# Altium schematic symbol library sinking-clock.SchLib: 22 symbols
Pins are listed as number, name and electrical type; pins without a type are passive.

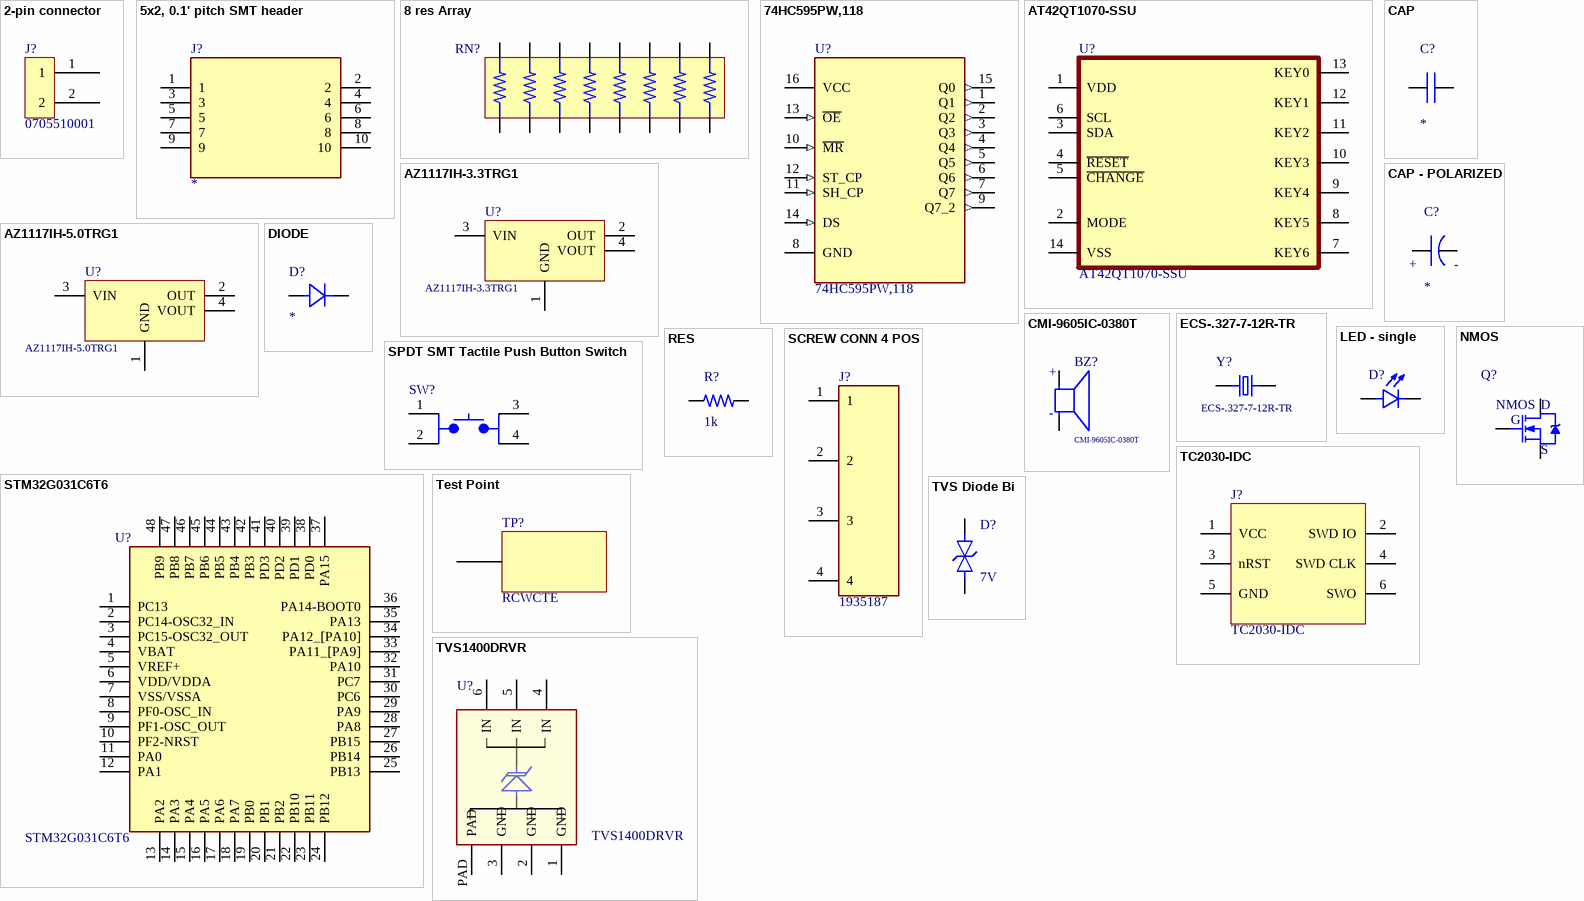
[diagram p0: symbols 2-pin connector to TVS Diode Bi]

## 2-pin connector
designator J?, comment 0705510001
CONN HEADER R/A 2POS 2.54MM; MFR: MOLEX; MFR PN: 0705510001; Vendor: *; Vendor PN: *; Vendor Link: *; Type: TH
footprint CONN_MOLEX_705510001
pins: 1, 2

## 5x2, 0.1' pitch SMT header
designator J?
CONN HEADER SMD 10POS 2.54MM; MFR: CNC Tech; MFR PN: 3020-10-0300-00; Vendor: *; Vendor PN: *; Vendor Link: *; Type: SMD
footprint 5x2, 0.1' pitch SMT header (CONN HEADER SMD 10POS 2.54MM)
pins: 1, 2, 3, 4, 5, 6, 7, 8, 9, 10

## 8 res Array
designator RN?
Vendor: *; Vendor PN: *; ComponentLink1Description: New link; ComponentLink1URL: *; ComponentLink2Description: New link 1; ComponentLink2URL: *; Vendor Link: *; Value: *
footprint MNR18ERAPJ822 (Chip Array, Concave, 16-Leads, Pitch 0.50mm,  Body 4.00x1.60mm,  IPC Medium Density)
footprint EXB2HV331JV (330 Res Array)
pins: 1, 2, 3, 4, 5, 6, 7, 8, 9, 10, 11, 12, 13, 14, 15, 16

## 74HC595PW,118
designator U?
Shift Shift Register 1 Element 8 Bit 16-TSSOP; MFR: Nexperia USA Inc.; MFR PN: 74HC595PW,118; Vendor: *; Vendor PN: *; Vendor Link: *
footprint 16-TSSOP
pins: 1 Q1 (out), 2 Q2 (out), 3 Q3 (out), 4 Q4 (out), 5 Q5 (out), 6 Q6 (out), 7 Q7 (out), 8 GND, 9 Q7_2 (out), 10 ~{MR} (in), 11 SH_CP (in), 12 ST_CP (in), 13 ~{OE} (in), 14 DS (in), 15 Q0 (out), 16 VCC (power)

## AT42QT1070-SSU
designator U?
Capacitive Touch Buttons 14-SOIC; MFR: Microchip; Value: *; MFR PN: AT42QT1070-SSU; Type: SMD
footprint 14-SOIC
pins: 1 VDD, 2 MODE, 3 SDA, 4 ~{RESET}, 5 ~{CHANGE}, 6 SCL, 7 KEY6, 8 KEY5, 9 KEY4, 10 KEY3, 11 KEY2, 12 KEY1, 13 KEY0, 14 VSS

## AZ1117IH-3.3TRG1
designator U?
IC REG LINEAR 3.3V 1A SOT223; MFR: Diodes Incorporated; MFR PN: AZ1117IH-3.3TRG1; Vendor: *; Vendor PN: *; Vendor Link: *; Type: SMD
footprint SOT-223-3
pins: 1 GND, 2 OUT, 3 VIN, 4 VOUT

## AZ1117IH-5.0TRG1
designator U?
IC REG LINEAR 5V 1A SOT223; MFR: Diodes Incorporated; MFR PN: AZ1117IH-5.0TRG1; Vendor: *; Vendor PN: *; Vendor Link: *
footprint SOT-223-3
pins: 1 GND, 2 OUT, 3 VIN, 4 VOUT

## CAP
designator C?  (value not drawn)
Capacitor; Type: SMD; MFR: *; MFR PN: *; Vendor: *; Vendor PN: *; Vendor Link: *; Value: *
footprint 0402C (0402 SMT Capacitor)
pins: 1, 2

## CAP - POLARIZED
designator C?, comment CAP  (value not drawn)
Capacitor; MFR: *; MFR PN: *; Vendor: *; Vendor PN: *; Vendor Link: *; Value: *
footprint CAP_CAN_POLY
pins: 1, 2
text: +; -

## CMI-9605IC-0380T
designator BZ?
MAGNETIC BUZZER INDICATOR; MFR: CUI Devices; MFR PN: CMI-9605IC-0380T; Vendor: *; Vendor PN: *; Vendor Link: *; Type: TH
footprint CUI_CMI-9605IC-0380T
pins: N, P
text: +; -

## DIODE
designator D?
DIODE GEN PURP; MFR: *; MFR PN: *; Value: *; Type: *
footprint DO-214AC
pins: A, K

## ECS-.327-7-12R-TR
designator Y?
SMD Tuning Fork Crystal; MFR: ECS Inc.; MFR PN: ECS-.327-7-12R-TR; Vendor: *; Vendor PN: *; Vendor Link: *; Type: SMD
footprint ECS-.327-12.5-12R-TR
pins: 1, 2

## LED - single
designator D?  (value not drawn)
LED; Type: SMD; Color: *; MFR: *; MFR PN: *; Vendor: *; Vendor PN: *; Vendor Link: *
footprint LED - 0603
footprint LED - 1204 RA (SMD Mono-color Side view Waterclear, body 3.2x1.5mm)
pins: 1 A, 2 C

## NMOS
designator Q?
N-Channel MOSFET; MFR PN: DMN63D8L-7; MFR: Diodes Incorporated; Type: SMD; Vendor: *; Vendor PN: *; Vendor Link: *
footprint SOT-23
pins: 1 G, 2 S, 3 D

## RES
designator R?  value 1k
Resistor; MFR PN: *; MFR: *; Vendor: *; Vendor PN: *; Vendor Link: *
footprint 0402R (0402 SMT Resistor)
pins: 1, 2

## SCREW CONN 4 POS
designator J?, comment 1935187
Fixed Terminal Blocks PT 1.5/4-5.0-H; MFR: Phoenix Contact; MFR PN: 1935187; Type: TH
footprint 1935187
pins: 1, 2, 3, 4

## SPDT SMT Tactile Push Button Switch
designator SW?  (value not drawn)
MFR: *; MFR PN: *; Vendor: *; Vendor PN: *; Vendor Link: *; Type: *
footprint TL3301BF160QGTUBE
pins: 1, 2, 3, 4

## STM32G031C6T6
designator U?
STM32G031C6T6 - ARM MCU, STM32 Family STM32G0 Series Microcontrollers, ARM Cortex-M0+, 32bit, 64 MHz, 32 KB, 8 KB; MFR: STMicroelectronics; MFR PN: STM32G031C6T6; Vendor: *; Vendor PN: *; Vendor Link: *; Type: SMD
footprint 48-LQFP
pins: 1 PC13, 2 PC14-OSC32_IN, 3 PC15-OSC32_OUT, 4 VBAT, 5 VREF+, 6 VDD/VDDA, 7 VSS/VSSA, 8 PF0-OSC_IN, 9 PF1-OSC_OUT, 10 PF2-NRST, 11 PA0, 12 PA1, 13 PA2, 14 PA3, 15 PA4, 16 PA5, 17 PA6, 18 PA7, 19 PB0, 20 PB1, 21 PB2, 22 PB10, 23 PB11, 24 PB12, 25 PB13, 26 PB14, 27 PB15, 28 PA8, 29 PA9, 30 PC6, 31 PC7, 32 PA10, 33 PA11_[PA9], 34 PA12_[PA10], 35 PA13, 36 PA14-BOOT0, 37 PA15, 38 PD0, 39 PD1, 40 PD2, 41 PD3, 42 PB3, 43 PB4, 44 PB5, 45 PB6, 46 PB7, 47 PB8, 48 PB9

## TC2030-IDC
designator J?
"Plug of Nails" POGO Pin connector; MFR PN: TC2030-IDC-NL; MFR: Tag-Connect; Value: DNS
footprint TAG CONNECT TC2030IDC - NO 3D MODEL
pins: 1 VCC, 2 SWD IO, 3 nRST, 4 SWD CLK, 5 GND, 6 SWO

## Test Point
designator TP?, comment RCWCTE
Test Point, Surface Mount; MFR: KOA Speer Electronics, Inc.; MFR PN: RCWCTE; Vendor: *; Vendor PN: *; Vendor Link: *; Type: SMD
footprint RCWCTE
pins: 1 0

## TVS1400DRVR
designator U?
UNIDIR  PRECISION SURGE DIODE; MFR: Texas Instruments; MFR PN: TVS1400DRVR; Value: *; Type: SMD
footprint 6-WDFN-EP
pins: 1 GND, 2 GND, 3 GND, 4 IN, 5 IN, 6 IN, PAD

## TVS Diode Bi
designator D?, comment 7V
MFR PN: DESD3V3E1BL-7B; MFR: Diodes Incorporated; Type: SMD
footprint DESD3V3S1BL-7B
pins: 1, 2